# Altium schematic symbol library AMP.SchLib: 3 symbols
Pins are listed as number, name and electrical type; pins without a type are passive.

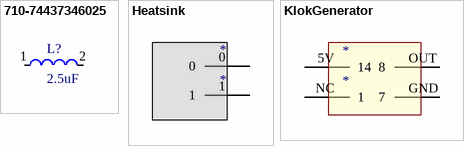
[diagram p0: symbols 710-74437346025 to KlokGenerator]

## 710-74437346025
designator L?, comment 2.5uF
SMD
footprint 710-74437346025
pins: 1, 2

## Heatsink
designator *
footprint Heatsink
pins: 0, 1

## KlokGenerator
designator *
footprint clkGenerator
pins: 5V 14, GND 7, NC 1, OUT 8